# Altium footprint library headers.PcbLib: 5 footprints
Each footprint in its own frame and in the unit in brackets; x right, y up, seen from the top. Pads: shape width x height; smd on the part's side, far side on the other; paste and mask are expansions set on the pad; w line width, h text height; cw(c..) or ccw(c..) is an arc to the next point about the centre after c.
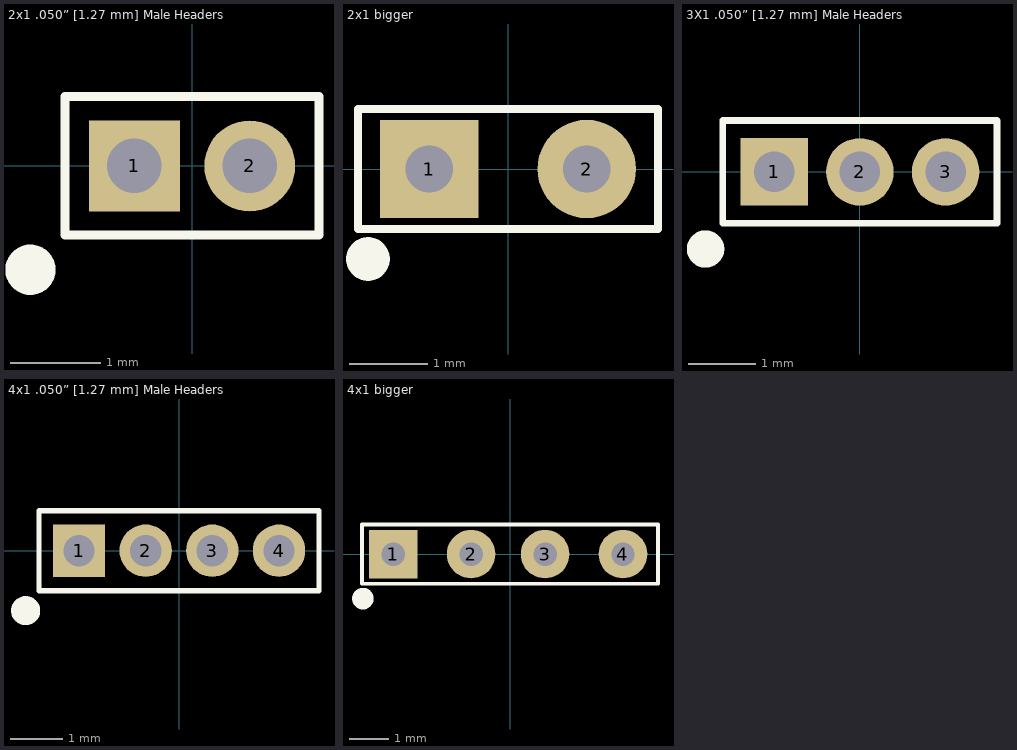
[diagram p0: the footprints below, top view; thin cyan lines are the x and y axes]

## 2x1 .050” [1.27 mm] Male Headers [mm] ".050” [1.27 mm] Contact Centers, Male Headers"
height 3
pads (2):
  rect 1x1 hole 0.6: 1(-0.635,0)
  round 1 hole 0.6: 2(0.635,0)
Top Overlay:
  circle w0.3: c-1.778,-1.143 r0.127
  lines w0.1: -1.397,-0.762 1.397,-0.762 1.397,0.762 -1.397,0.762 -1.397,-0.762

## 2x1 bigger [mm]
pads (2):
  rect 1.25x1.25 hole 0.6: 1(-1,0)
  round 1.25 hole 0.6: 2(1,0)
Top Overlay:
  circle w0.3: c-1.778,-1.143 r0.127
  lines w0.1: -1.905,-0.762 -1.905,0.762 1.905,0.762 1.905,-0.762 -1.905,-0.762

## 3X1 .050” [1.27 mm] Male Headers [mm] ".050” [1.27 mm] Contact Centers, Male Headers"
pads (3):
  rect 1x1 hole 0.6: 1(-1.27,0)
  round 1 hole 0.6: 2(0,0) 3(1.27,0)
Top Overlay:
  circle w0.3: c-2.286,-1.143 r0.127
  lines w0.1: -2.032,-0.762 2.032,-0.762 2.032,0.762 -2.032,0.762 -2.032,-0.762

## 4x1 .050” [1.27 mm] Male Headers [mm] ".050” [1.27 mm] Contact Centers, Male Headers"
height 3
pads (4):
  rect 1x1 hole 0.6: 1(-1.905,0)
  round 1 hole 0.6: 2(-0.635,0) 3(0.635,0) 4(1.905,0)
Top Overlay:
  circle w0.3: c-2.921,-1.143 r0.127
  lines w0.1: -2.667,-0.762 2.667,-0.762 2.667,0.762 -2.667,0.762 -2.667,-0.762

## 4x1 bigger [mm]
pads (4):
  rect 1.25x1.25 hole 0.6: 1(-3,0)
  round 1.25 hole 0.6: 2(-1,0) 3(0.9,0) 4(2.9,0)
Top Overlay:
  circle w0.3: c-3.778,-1.143 r0.127
  lines w0.1: -3.8,-0.762 -0.005,-0.762 3.8,-0.762 3.8,0.762 -0.005,0.762 -3.8,0.762 -3.8,-0.762